# Altium footprint library WP-SMRA.PcbLib: 9 footprints
Each footprint in its own frame and in the unit in brackets; x right, y up, seen from the top. Pads: shape width x height; smd on the part's side, far side on the other; paste and mask are expansions set on the pad; w line width, h text height; cw(c..) or ccw(c..) is an arc to the next point about the centre after c.
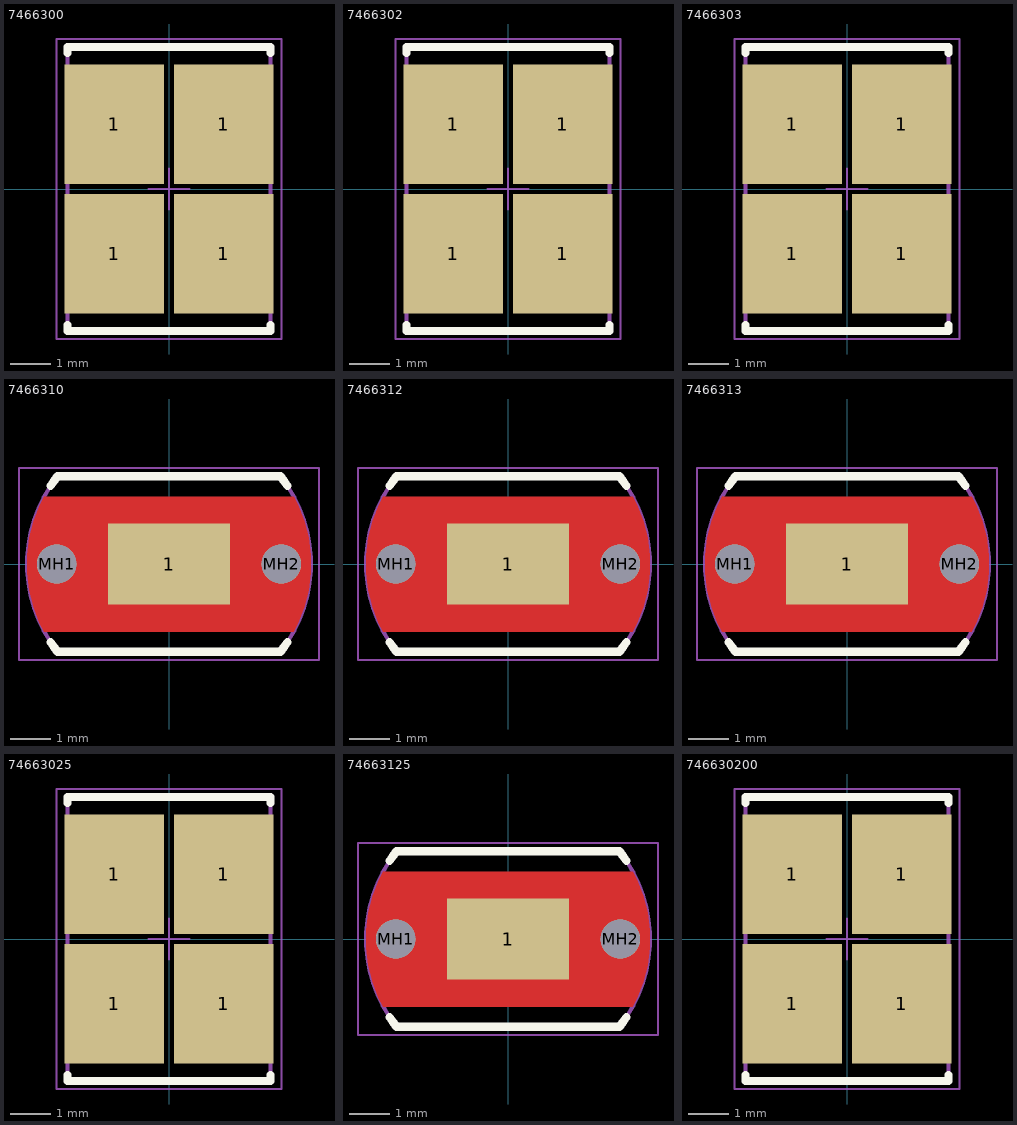
[diagram p0: the footprints below, top view; thin cyan lines are the x and y axes]

## 7466300 [mm] "SMD Terminal Right Angled, HoleDiamater 3.3mm, Length 7mm"
height 5
pads (4):
  rect 2.45x2.95 smd paste-403.566: 1(-1.35,-1.6) 1(-1.35,1.6) 1(1.35,-1.6) 1(1.35,1.6)
Top Overlay:
  lines w0.2: -2.5,-3.35 -2.5,-3.5 2.5,-3.5 2.5,-3.35 ; -2.5,3.35 -2.5,3.5 2.5,3.5 2.5,3.35
Top Paste:
  region: -2.475,-2.975 -2.475,-0.225 -0.225,-0.225 -0.225,-2.975
  region: -2.475,0.225 -2.475,2.975 -0.225,2.975 -0.225,0.225
  region: 0.225,-2.975 0.225,-0.225 2.475,-0.225 2.475,-2.975
  region: 0.225,0.225 0.225,2.975 2.475,2.975 2.475,0.225
Top Designator:
  text ".Designator" at -7.498,-0.5 h1.5
Top Component Outline:
  lines w0.1: -2.5,-3.5 -2.5,3.5 2.5,3.5 2.5,-3.5 -2.5,-3.5
Top 3D Body:
  lines w0.1: -2.5,-3.5 2.5,-3.5 2.5,3.5 -2.5,3.5 -2.5,-3.5
Top Courtyard:
  lines w0.05: -0.5,0 0.5,0 ; 0,-0.5 0,0.5 ; -2.775,-3.7 2.775,-3.7 2.775,3.7 -2.775,3.7 -2.775,-3.7
3D body "7466300.stp": height 5, standoff 0, extent -2.5,-3.5 2.5,3.5

## 7466302 [mm] "SMD Terminal Right Angled, Thread M2, Length 7mm"
height 5
pads (4):
  rect 2.45x2.95 smd paste-403.566: 1(-1.35,-1.6) 1(-1.35,1.6) 1(1.35,-1.6) 1(1.35,1.6)
Top Overlay:
  lines w0.2: -2.5,-3.35 -2.5,-3.5 2.5,-3.5 2.5,-3.35 ; -2.5,3.35 -2.5,3.5 2.5,3.5 2.5,3.35
Top Paste:
  region: 0.225,0.225 0.225,2.975 2.475,2.975 2.475,0.225
  region: 0.225,-2.975 0.225,-0.225 2.475,-0.225 2.475,-2.975
  region: -2.475,0.225 -2.475,2.975 -0.225,2.975 -0.225,0.225
  region: -2.475,-2.975 -2.475,-0.225 -0.225,-0.225 -0.225,-2.975
Top Designator:
  text ".Designator" at -7.498,-0.5 h1.5
Top Component Outline:
  lines w0.1: -2.5,-3.5 2.5,-3.5 2.5,3.5 -2.5,3.5 -2.5,-3.5
Top 3D Body:
  lines w0.1: -2.5,-3.5 -2.5,3.5 2.5,3.5 2.5,-3.5 -2.5,-3.5
Top Courtyard:
  lines w0.05: -0.5,0 0.5,0 ; 0,-0.5 0,0.5 ; -2.775,-3.7 -2.775,3.7 2.775,3.7 2.775,-3.7 -2.775,-3.7
3D body "7466302.stp": height 5, standoff 0, extent -2.5,-3.5 2.5,3.5

## 7466303 [mm] "SMD Terminal Right Angled, Thread M3, Length 7mm"
height 5
pads (4):
  rect 2.45x2.95 smd paste-403.566: 1(-1.35,-1.6) 1(-1.35,1.6) 1(1.35,-1.6) 1(1.35,1.6)
Top Overlay:
  lines w0.2: -2.5,-3.35 -2.5,-3.5 2.5,-3.5 2.5,-3.35 ; -2.5,3.35 -2.5,3.5 2.5,3.5 2.5,3.35
Top Paste:
  region: -2.475,-2.975 -2.475,-0.225 -0.225,-0.225 -0.225,-2.975
  region: -2.475,0.225 -2.475,2.975 -0.225,2.975 -0.225,0.225
  region: 0.225,-2.975 0.225,-0.225 2.475,-0.225 2.475,-2.975
  region: 0.225,0.225 0.225,2.975 2.475,2.975 2.475,0.225
Top Designator:
  text ".Designator" at -7.498,-0.5 h1.5
Top Component Outline:
  lines w0.1: -2.5,-3.5 -2.5,3.5 2.5,3.5 2.5,-3.5 -2.5,-3.5
Top 3D Body:
  lines w0.1: -2.5,-3.5 2.5,-3.5 2.5,3.5 -2.5,3.5 -2.5,-3.5
Top Courtyard:
  lines w0.05: -0.5,0 0.5,0 ; 0,-0.5 0,0.5 ; -2.775,-3.7 2.775,-3.7 2.775,3.7 -2.775,3.7 -2.775,-3.7
3D body "7466303.stp": height 5, standoff 0, extent -2.5,-3.5 2.5,3.5

## 7466310 [mm] "SMD Terminal Right Angled with Pins, HoleDiamater 3.3mm, Length 5.5mm"
height 7
pads (3):
  rect 3x2 smd paste-403.566 mask-403.566: 1(0,0)
  round 0.97 hole 0.97 unplated paste-403.566: MH1(-2.77,0) MH2(2.77,0)
Top Layer:
  region: -3.079,-1.665 3.079,-1.665 3.182,-1.474 3.34,-1.069 3.446,-0.648 3.5,-0.217 3.5,0.217 3.446,0.648 3.34,1.069 3.182,1.474 3.079,1.665 -3.079,1.665 -3.182,1.474 -3.34,1.069 -3.446,0.648 -3.5,0.217 -3.5,-0.217 -3.447,-0.648 -3.34,-1.069 -3.182,-1.474
Top Overlay:
  lines w0.2: -2.92,-1.93 ccw(c0,0) -2.75,-2.165 2.75,-2.165 ccw(c0,0) 2.92,-1.93 ; -2.92,1.93 cw(c0,0) -2.75,2.165 2.75,2.165 cw(c0,0) 2.92,1.93
Top Paste:
  region: 3.354,-1 2,-1 2,-0.5 -2,-0.5 -2,-1 -3.354,-1 -3.328,-1.086 -3.268,-1.256 -3.199,-1.423 -3.122,-1.586 -3.079,-1.665 3.079,-1.665 3.122,-1.585 3.199,-1.423 3.268,-1.256 3.328,-1.086
  region: -3.354,1 -2,1 -2,0.5 2,0.5 2,1 3.354,1 3.328,1.086 3.268,1.256 3.199,1.423 3.122,1.586 3.079,1.665 -3.079,1.665 -3.122,1.585 -3.199,1.423 -3.268,1.256 -3.328,1.086
Top Designator:
  text ".Designator" at -7.498,-0.5 h1.5
Top Component Outline:
  lines w0.1: -2.75,-2.165 cw(c0,0) -2.75,2.165 2.75,2.165 cw(c0,0) 2.75,-2.165 -2.75,-2.165
Top 3D Body:
  lines w0.1: -2.75,-2.165 cw(c0,0) -2.75,2.165 2.75,2.165 cw(c0,0) 2.75,-2.165 -2.75,-2.165
Top Courtyard:
  lines w0.05: -0.5,0 0.5,0 ; 0,-0.5 0,0.5 ; -3.7,-2.365 3.7,-2.365 3.7,2.365 -3.7,2.365 -3.7,-2.365
3D body "7466310.stp": height 7, standoff -1, extent -3.5,-2.165 3.5,2.165

## 7466312 [mm] "SMD Terminal Right Angled with Pins, Thread M2, Length 5.5mm"
height 7
pads (3):
  rect 3x2 smd paste-403.566 mask-403.566: 1(0,0)
  round 0.97 hole 0.97 unplated paste-403.566: MH1(-2.77,0) MH2(2.77,0)
Top Layer:
  region: -3.079,-1.665 3.079,-1.665 3.182,-1.474 3.34,-1.069 3.446,-0.648 3.5,-0.217 3.5,0.217 3.446,0.648 3.34,1.069 3.182,1.474 3.079,1.665 -3.079,1.665 -3.182,1.474 -3.34,1.069 -3.446,0.648 -3.5,0.217 -3.5,-0.217 -3.447,-0.648 -3.34,-1.069 -3.182,-1.474
Top Overlay:
  lines w0.2: -2.92,-1.93 ccw(c0,0) -2.75,-2.165 2.75,-2.165 ccw(c0,0) 2.92,-1.93 ; -2.92,1.93 cw(c0,0) -2.75,2.165 2.75,2.165 cw(c0,0) 2.92,1.93
Top Paste:
  region: -3.354,1 -2,1 -2,0.5 2,0.5 2,1 3.354,1 3.328,1.086 3.268,1.256 3.199,1.423 3.122,1.586 3.079,1.665 -3.079,1.665 -3.122,1.585 -3.199,1.423 -3.268,1.256 -3.328,1.086
  region: 3.354,-1 2,-1 2,-0.5 -2,-0.5 -2,-1 -3.354,-1 -3.328,-1.086 -3.268,-1.256 -3.199,-1.423 -3.122,-1.586 -3.079,-1.665 3.079,-1.665 3.122,-1.585 3.199,-1.423 3.268,-1.256 3.328,-1.086
Top Designator:
  text ".Designator" at -7.498,-0.5 h1.5
Top Component Outline:
  lines w0.1: -2.75,-2.165 cw(c0,0) -2.75,2.165 2.75,2.165 cw(c0,0) 2.75,-2.165 -2.75,-2.165
Top 3D Body:
  lines w0.1: -2.75,-2.165 cw(c0,0) -2.75,2.165 2.75,2.165 cw(c0,0) 2.75,-2.165 -2.75,-2.165
Top Courtyard:
  lines w0.05: -0.5,0 0.5,0 ; 0,-0.5 0,0.5 ; -3.7,-2.365 -3.7,2.365 3.7,2.365 3.7,-2.365 -3.7,-2.365
3D body "7466312.stp": height 7, standoff -0.8, extent -3.5,-2.165 3.5,2.165

## 7466313 [mm] "SMD Terminal Right Angled with Pins, Thread M3, Length 5.5mm"
height 7
pads (3):
  rect 3x2 smd paste-403.566 mask-403.566: 1(0,0)
  round 0.97 hole 0.97 unplated paste-403.566: MH1(-2.77,0) MH2(2.77,0)
Top Layer:
  region: -3.079,-1.665 3.079,-1.665 3.182,-1.474 3.34,-1.069 3.446,-0.648 3.5,-0.217 3.5,0.217 3.446,0.648 3.34,1.069 3.182,1.474 3.079,1.665 -3.079,1.665 -3.182,1.474 -3.34,1.069 -3.446,0.648 -3.5,0.217 -3.5,-0.217 -3.447,-0.648 -3.34,-1.069 -3.182,-1.474
Top Overlay:
  lines w0.2: -2.92,-1.93 ccw(c0,0) -2.75,-2.165 2.75,-2.165 ccw(c0,0) 2.92,-1.93 ; -2.92,1.93 cw(c0,0) -2.75,2.165 2.75,2.165 cw(c0,0) 2.92,1.93
Top Paste:
  region: -3.354,1 -2,1 -2,0.5 2,0.5 2,1 3.354,1 3.328,1.086 3.268,1.256 3.199,1.423 3.122,1.586 3.079,1.665 -3.079,1.665 -3.122,1.585 -3.199,1.423 -3.268,1.256 -3.328,1.086
  region: 3.354,-1 2,-1 2,-0.5 -2,-0.5 -2,-1 -3.354,-1 -3.328,-1.086 -3.268,-1.256 -3.199,-1.423 -3.122,-1.586 -3.079,-1.665 3.079,-1.665 3.122,-1.585 3.199,-1.423 3.268,-1.256 3.328,-1.086
Top Designator:
  text ".Designator" at -7.498,-0.5 h1.5
Top Component Outline:
  lines w0.1: -2.75,-2.165 cw(c0,0) -2.75,2.165 2.75,2.165 cw(c0,0) 2.75,-2.165 -2.75,-2.165
Top 3D Body:
  lines w0.1: -2.75,-2.165 cw(c0,0) -2.75,2.165 2.75,2.165 cw(c0,0) 2.75,-2.165 -2.75,-2.165
Top Courtyard:
  lines w0.05: -0.5,0 0.5,0 ; 0,-0.5 0,0.5 ; -3.7,-2.365 -3.7,2.365 3.7,2.365 3.7,-2.365 -3.7,-2.365
3D body "7466313.stp": height 7, standoff -1, extent -3.5,-2.165 3.5,2.165

## 74663025 [mm] "SMD Terminal Right Angled, Thread M2.5, Length 7mm"
height 5
pads (4):
  rect 2.45x2.95 smd paste-403.566: 1(-1.35,-1.6) 1(-1.35,1.6) 1(1.35,-1.6) 1(1.35,1.6)
Top Overlay:
  lines w0.2: -2.5,-3.35 -2.5,-3.5 2.5,-3.5 2.5,-3.35 ; -2.5,3.35 -2.5,3.5 2.5,3.5 2.5,3.35
Top Paste:
  region: -2.475,-2.975 -2.475,-0.225 -0.225,-0.225 -0.225,-2.975
  region: -2.475,0.225 -2.475,2.975 -0.225,2.975 -0.225,0.225
  region: 0.225,-2.975 0.225,-0.225 2.475,-0.225 2.475,-2.975
  region: 0.225,0.225 0.225,2.975 2.475,2.975 2.475,0.225
Top Designator:
  text ".Designator" at -7.498,-0.5 h1.5
Top Component Outline:
  lines w0.1: -2.5,-3.5 -2.5,3.5 2.5,3.5 2.5,-3.5 -2.5,-3.5
Top 3D Body:
  lines w0.1: -2.5,-3.5 2.5,-3.5 2.5,3.5 -2.5,3.5 -2.5,-3.5
Top Courtyard:
  lines w0.05: -0.5,0 0.5,0 ; 0,-0.5 0,0.5 ; -2.775,-3.7 2.775,-3.7 2.775,3.7 -2.775,3.7 -2.775,-3.7
3D body "74663025.stp": height 5, standoff 0, extent -2.5,-3.5 2.5,3.5

## 74663125 [mm] "SMD Terminal Right Angled with Pins, Thread M2.5, Length 5.5mm"
height 7
pads (3):
  rect 3x2 smd paste-403.566 mask-403.566: 1(0,0)
  round 0.97 hole 0.97 unplated paste-403.566: MH1(-2.77,0) MH2(2.77,0)
Top Layer:
  region: -3.079,-1.665 3.079,-1.665 3.182,-1.474 3.34,-1.069 3.446,-0.648 3.5,-0.217 3.5,0.217 3.446,0.648 3.34,1.069 3.182,1.474 3.079,1.665 -3.079,1.665 -3.182,1.474 -3.34,1.069 -3.446,0.648 -3.5,0.217 -3.5,-0.217 -3.447,-0.648 -3.34,-1.069 -3.182,-1.474
Top Overlay:
  lines w0.2: -2.92,-1.93 ccw(c0,0) -2.75,-2.165 2.75,-2.165 ccw(c0,0) 2.92,-1.93 ; -2.92,1.93 cw(c0,0) -2.75,2.165 2.75,2.165 cw(c0,0) 2.92,1.93
Top Paste:
  region: -3.354,1 -2,1 -2,0.5 2,0.5 2,1 3.354,1 3.328,1.086 3.268,1.256 3.199,1.423 3.122,1.586 3.079,1.665 -3.079,1.665 -3.122,1.585 -3.199,1.423 -3.268,1.256 -3.328,1.086
  region: 3.354,-1 2,-1 2,-0.5 -2,-0.5 -2,-1 -3.354,-1 -3.328,-1.086 -3.268,-1.256 -3.199,-1.423 -3.122,-1.586 -3.079,-1.665 3.079,-1.665 3.122,-1.585 3.199,-1.423 3.268,-1.256 3.328,-1.086
Top Designator:
  text ".Designator" at -7.498,-0.5 h1.5
Top Component Outline:
  lines w0.1: -2.75,-2.165 cw(c0,0) -2.75,2.165 2.75,2.165 cw(c0,0) 2.75,-2.165 -2.75,-2.165
Top 3D Body:
  lines w0.1: -2.75,-2.165 cw(c0,0) -2.75,2.165 2.75,2.165 cw(c0,0) 2.75,-2.165 -2.75,-2.165
Top Courtyard:
  lines w0.05: -0.5,0 0.5,0 ; 0,-0.5 0,0.5 ; -3.7,-2.365 -3.7,2.365 3.7,2.365 3.7,-2.365 -3.7,-2.365
3D body "74663125.stp": height 7, standoff -0.8, extent -3.5,-2.165 3.5,2.165

## 746630200 [mm] "SMD Terminal Right Angled, Thread M2, Length 7mm"
height 5
pads (4):
  rect 2.45x2.95 smd paste-403.566: 1(-1.35,-1.6) 1(-1.35,1.6) 1(1.35,-1.6) 1(1.35,1.6)
Top Overlay:
  lines w0.2: -2.5,-3.35 -2.5,-3.5 2.5,-3.5 2.5,-3.35 ; -2.5,3.35 -2.5,3.5 2.5,3.5 2.5,3.35
Top Paste:
  region: -2.475,-2.975 -2.475,-0.225 -0.225,-0.225 -0.225,-2.975
  region: -2.475,0.225 -2.475,2.975 -0.225,2.975 -0.225,0.225
  region: 0.225,-2.975 0.225,-0.225 2.475,-0.225 2.475,-2.975
  region: 0.225,0.225 0.225,2.975 2.475,2.975 2.475,0.225
Top Designator:
  text ".Designator" at -7.498,-0.5 h1.5
Top Component Outline:
  lines w0.1: -2.5,-3.5 -2.5,3.5 2.5,3.5 2.5,-3.5 -2.5,-3.5
Top 3D Body:
  lines w0.1: -2.5,-3.5 2.5,-3.5 2.5,3.5 -2.5,3.5 -2.5,-3.5
Top Courtyard:
  lines w0.05: -0.5,0 0.5,0 ; 0,-0.5 0,0.5 ; -2.775,-3.7 2.775,-3.7 2.775,3.7 -2.775,3.7 -2.775,-3.7
3D body "746630200.stp": height 5, standoff 0, extent -2.5,-3.5 2.5,3.5